# Altium schematic symbol library HW_ADHERENT_SYSCTRL_R1_L2.SCHLIB: 1987 symbols (part 5 of 38)
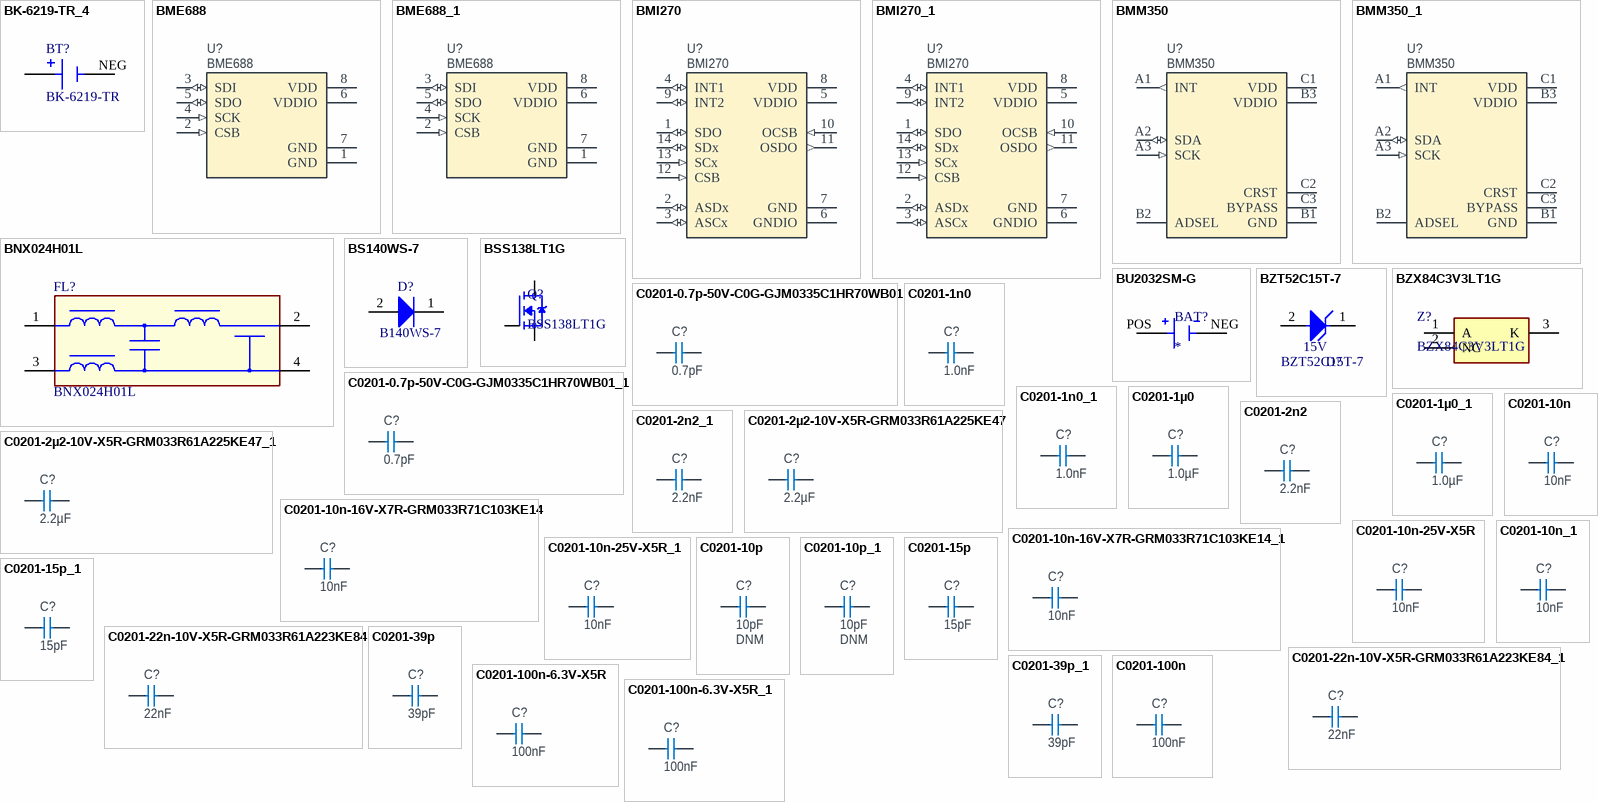
[diagram p66: symbols BK-6219-TR_4 to C0201-100n-6.3V-X5R_1]

## C0201-15p
designator C?, comment 15pF
Capacitor, NP0, ±5%, 25V; Part Number: C0201-15p; Manufacturer: Murata; Manufacturer Part Number: GRM0335C1E150JA01D; Part number IPS: 00000003193; Part number NEMS: 100200034; Pad Count: 2; Component Status: Active; Artikkelnr Noca: N.A.; Footprint Doc: 0201; Value: 15pF; Author: rsk; PartId: 100200034; Component Class: Capacitors; ComponentLink1URL: N.A.; ComponentLink1Description: Datasheet; ComponentLink2URL: N.A.; ComponentLink2Description: Supplier link; HelpURL: N.A.; LatestRevisionDate: 2023-01-06; Published: 2014-11-13; Note: 25V; Supplier 1: N.A.; Supplier Part Number 1: N.A.; Supplier 2: N.A.; Supplier Part Number 2: N.A.; Part number Norautron: N.A.
footprint CAPC0603X03L_C
pins: 1, 2

## C0201-15p_1
designator C?, comment 15pF
Capacitor, NP0, ±5%, 25V; Part Number: C0201-15p; Manufacturer: Murata; Manufacturer Part Number: GRM0335C1E150JA01D; Part number IPS: 00000003193; Part number NEMS: 100200034; Pad Count: 2; Component Status: Active; Artikkelnr Noca: N.A.; Footprint Doc: 0201; Value: 15pF; Author: rsk; PartId: 100200034; Component Class: Capacitors; ComponentLink1URL: N.A.; ComponentLink1Description: Datasheet; ComponentLink2URL: N.A.; ComponentLink2Description: Supplier link; HelpURL: N.A.; LatestRevisionDate: 2023-01-06; Published: 2014-11-13; Note: 25V; Supplier 1: N.A.; Supplier Part Number 1: N.A.; Supplier 2: N.A.; Supplier Part Number 2: N.A.; Part number Norautron: N.A.
footprint CAPC0603X03L_C
pins: 1, 2

## C0201-22n-10V-X5R-GRM033R61A223KE84
designator C?, comment 22nF
Capacitor, Ceramic, 22nF 10V X5R 0201,±10%; Part Number: C0201-22n-10V-X5R-GRM033R61A223KE84; Manufacturer: Murata; Manufacturer Part Number: GRM033R61A223KE84D; Part number NEMS: 100200495; Pad Count: 2; Artikkelnr Noca: N.A.; Component Status: Active; Component Class: Capacitors; Author: prbu; ComponentLink1URL: https://www.murata.com/en-sg/products/productdetail?partno=GRM033R61A223KE84%23; ComponentLink1Description: Datasheet; ComponentLink2URL: https://www.mouser.com/ProductDetail/Murata-Electronics/GRM033R61A223KE84E?qs=BZBei1rCqCCPqziwOnRusw%3D%3D; ComponentLink2Description: Supplier link; HelpURL: N.A.; Footprint Doc: 0201; LatestRevisionDate: 2021-12-09; Published: 2021-12-09; Value: 22nF; Note: 10V; Supplier 1: Mouser; Supplier Part Number 1: 81-GRM033R61A223KE4E; Supplier 2: Digi-Key; Supplier Part Number 2: 490-13334-1-ND; Part number IPS: N.A.; Part number Norautron: N.A.; PartId: 100200495
footprint CAPC0603X03L_C
pins: 1, 2

## C0201-22n-10V-X5R-GRM033R61A223KE84_1
designator C?, comment 22nF
Capacitor, Ceramic, 22nF 10V X5R 0201,±10%; Part Number: C0201-22n-10V-X5R-GRM033R61A223KE84; Manufacturer: Murata; Manufacturer Part Number: GRM033R61A223KE84D; Part number NEMS: 100200495; Pad Count: 2; Artikkelnr Noca: N.A.; Component Status: Active; Component Class: Capacitors; Author: prbu; ComponentLink1URL: https://www.murata.com/en-sg/products/productdetail?partno=GRM033R61A223KE84%23; ComponentLink1Description: Datasheet; ComponentLink2URL: https://www.mouser.com/ProductDetail/Murata-Electronics/GRM033R61A223KE84E?qs=BZBei1rCqCCPqziwOnRusw%3D%3D; ComponentLink2Description: Supplier link; HelpURL: N.A.; Footprint Doc: 0201; LatestRevisionDate: 2021-12-09; Published: 2021-12-09; Value: 22nF; Note: 10V; Supplier 1: Mouser; Supplier Part Number 1: 81-GRM033R61A223KE4E; Supplier 2: Digi-Key; Supplier Part Number 2: 490-13334-1-ND; Part number IPS: N.A.; Part number Norautron: N.A.; PartId: 100200495
footprint CAPC0603X03L_C
pins: 1, 2

## C0201-39p
designator C?, comment 39pF
Capacitor, NP0, ±1%, 25V; Part Number: C0201-39p; Manufacturer: Murata; Manufacturer Part Number: GRM0335C1E390FA01D; Part number IPS: 00000001668; Part number NEMS: 100200039; Artikkelnr Noca: N.A.; Pad Count: 2; Component Status: Active; ComponentLink1URL: N.A.; ComponentLink1Description: Datasheet; ComponentLink2URL: N.A.; ComponentLink2Description: Supplier link; HelpURL: N.A.; Footprint Doc: 0201; LatestRevisionDate: 2019-04-16; Published: 2019-04-16; Value: 39pF; Note: 25V; Supplier 1: N.A.; Supplier Part Number 1: N.A.; Supplier 2: N.A.; Supplier Part Number 2: N.A.; PartId: 100200039; Component Class: Capacitors; Author: rsk; Part number Norautron: N.A.
footprint CAPC0603X03L_C
pins: 1, 2

## C0201-39p_1
designator C?, comment 39pF
Capacitor, NP0, ±1%, 25V; Part Number: C0201-39p; Manufacturer: Murata; Manufacturer Part Number: GRM0335C1E390FA01D; Part number IPS: 00000001668; Part number NEMS: 100200039; Artikkelnr Noca: N.A.; Pad Count: 2; Component Status: Active; ComponentLink1URL: N.A.; ComponentLink1Description: Datasheet; ComponentLink2URL: N.A.; ComponentLink2Description: Supplier link; HelpURL: N.A.; Footprint Doc: 0201; LatestRevisionDate: 2019-04-16; Published: 2019-04-16; Value: 39pF; Note: 25V; Supplier 1: N.A.; Supplier Part Number 1: N.A.; Supplier 2: N.A.; Supplier Part Number 2: N.A.; PartId: 100200039; Component Class: Capacitors; Author: rsk; Part number Norautron: N.A.
footprint CAPC0603X03L_C
pins: 1, 2

## C0201-100n
designator C?, comment 100nF
Capacitor, X5R, ±10%; Part Number: C0201-100n; Manufacturer: N.A.; Part number IPS: 00000001248, 00000002505; Part number Norautron: 262071862; Part number NEMS: 100200078; Note: 16V; Pad Count: 2; Component Status: Active; Manufacturer Part Number: N.A.; ComponentLink1URL: N.A.; ComponentLink1Description: Datasheet; ComponentLink2URL: N.A.; ComponentLink2Description: Supplier link; HelpURL: N.A.; Footprint Doc: 0201; LatestRevisionDate: 2017-11-09; Published: 2014-11-13; Value: 100nF; Supplier 1: N.A.; Supplier Part Number 1: N.A.; Supplier 2: N.A.; Supplier Part Number 2: N.A.; Artikkelnr Noca: N.A.; PartId: 100200078; Component Class: Capacitors; Author: rsk
footprint CAPC0603X03L_C
pins: 1, 2

## C0201-100n-6.3V-X5R
designator C?, comment 100nF
Capacitor, Ceramic, X5R, ±10%, 6.3V; Part Number: C0201-100n-6.3V-X5R; Manufacturer: Murata; Manufacturer Part Number: GRM033R60J104KE19D; Part number NEMS: 100200451; Artikkelnr Noca: N.A.; Pad Count: 2; Component Status: Active; Footprint Doc: 0201; LatestRevisionDate: 2020-12-15; Published: 2020-12-15; Value: 100nF; Note: 6.3V; Part number IPS: N.A.; ComponentLink1URL: https://search.murata.co.jp/Ceramy/image/img/A01X/G101/ENG/GRM033R60J104KE19-01.pdf; ComponentLink1Description: Datasheet; ComponentLink2URL: https://www.murata.com/en-eu/products/productdetail?partno=GRM033R60J104KE19%23; ComponentLink2Description: Supplier link; HelpURL: N.A.; Supplier 1: Digi-Key; Supplier Part Number 1: 490-3167-1-ND; Supplier 2: N.A.; Supplier Part Number 2: N.A.; Component Class: Capacitors; PartId: 100200451; Author: rsk; Part number Norautron: N.A.
footprint CAPC0603X03L_C
pins: 1, 2

## C0201-100n-6.3V-X5R_1
designator C?, comment 100nF
Capacitor, Ceramic, X5R, ±10%, 6.3V; Part Number: C0201-100n-6.3V-X5R; Manufacturer: Murata; Manufacturer Part Number: GRM033R60J104KE19D; Part number NEMS: 100200451; Artikkelnr Noca: N.A.; Pad Count: 2; Component Status: Active; Footprint Doc: 0201; LatestRevisionDate: 2020-12-15; Published: 2020-12-15; Value: 100nF; Note: 6.3V; Part number IPS: N.A.; ComponentLink1URL: https://search.murata.co.jp/Ceramy/image/img/A01X/G101/ENG/GRM033R60J104KE19-01.pdf; ComponentLink1Description: Datasheet; ComponentLink2URL: https://www.murata.com/en-eu/products/productdetail?partno=GRM033R60J104KE19%23; ComponentLink2Description: Supplier link; HelpURL: N.A.; Supplier 1: Digi-Key; Supplier Part Number 1: 490-3167-1-ND; Supplier 2: N.A.; Supplier Part Number 2: N.A.; Component Class: Capacitors; PartId: 100200451; Author: rsk; Part number Norautron: N.A.
footprint CAPC0603X03L_C
pins: 1, 2

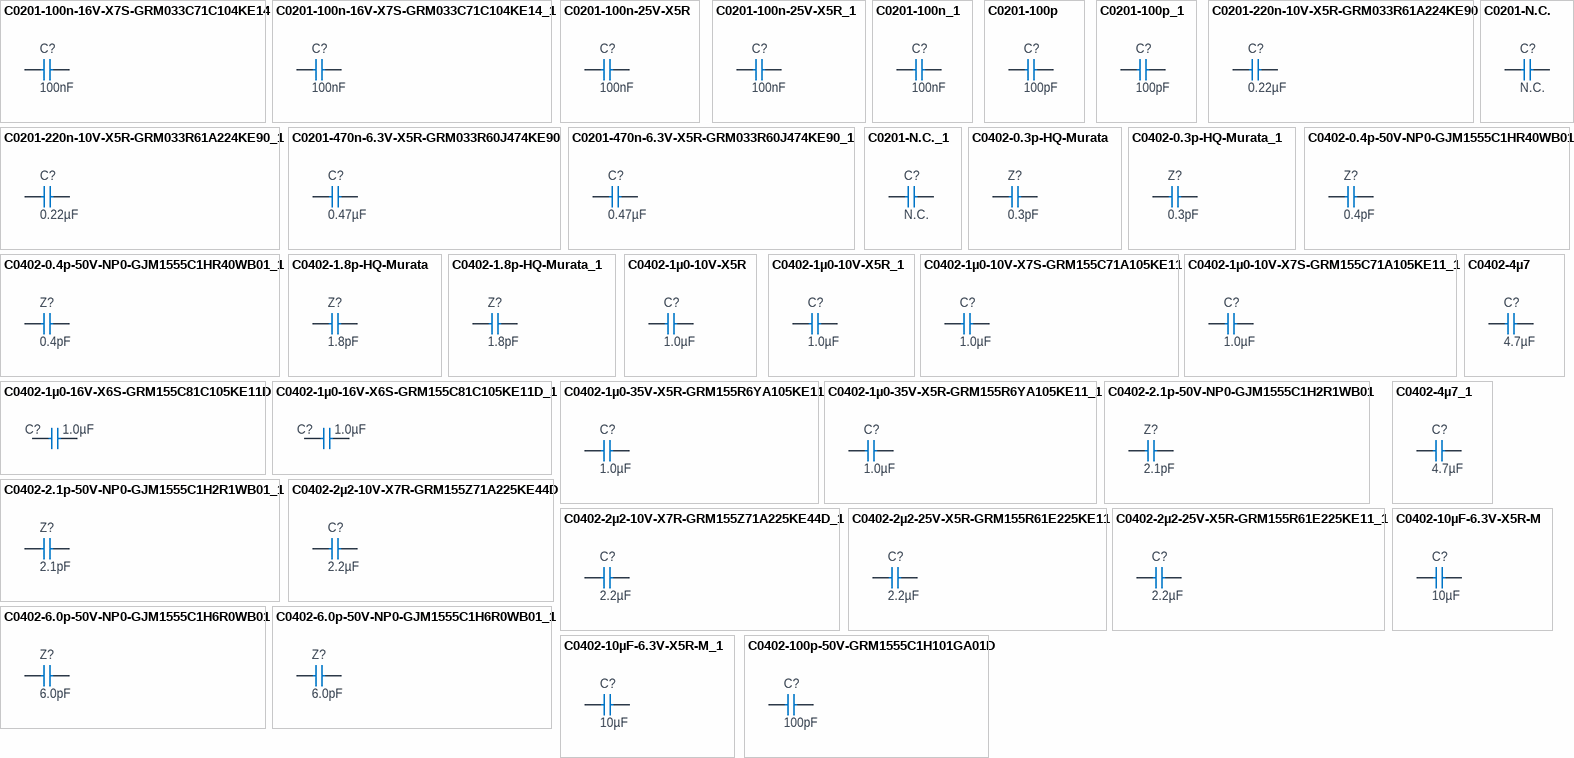
[diagram p8: symbols C0201-100n-16V-X7S-GRM033C71C104KE14 to C0402-100p-50V-GRM1555C1H101GA01D]

## C0201-100n-16V-X7S-GRM033C71C104KE14
designator C?, comment 100nF
Capacitor, Ceramic, 100nF 16V X7S 0201,±10%; Part Number: C0201-100n-16V-X7S-GRM033C71C104KE14; Manufacturer: Murata; Manufacturer Part Number: GRM033C71C104KE14D; Part number NEMS: 100200494; Pad Count: 2; Artikkelnr Noca: N.A.; Component Status: Active; PartId: 100200494; Component Class: Capacitors; Author: prbu; ComponentLink1URL: https://www.murata.com/en-sg/products/productdetail?partno=GRM033C71C104KE14%23; ComponentLink1Description: Datasheet; ComponentLink2URL: https://www.mouser.com/ProductDetail/Murata-Electronics/GRM033C71C104KE14D?qs=P%2FC4Eoq9CDzkjc0H6wJP9A%3D%3D; ComponentLink2Description: Supplier link; HelpURL: N.A.; Footprint Doc: 0201; LatestRevisionDate: 2021-12-09; Published: 2021-12-09; Value: 100nF; Note: 16V; Supplier 1: Mouser; Supplier Part Number 1: 81-GRM33C71C104KE14D; Supplier 2: Digi-Key; Supplier Part Number 2: 490-10387-1-ND; Part number IPS: N.A.; Part number Norautron: N.A.
footprint CAPC0603X03L_C
pins: 1, 2

## C0201-100n-16V-X7S-GRM033C71C104KE14_1
designator C?, comment 100nF
Capacitor, Ceramic, 100nF 16V X7S 0201,±10%; Part Number: C0201-100n-16V-X7S-GRM033C71C104KE14; Manufacturer: Murata; Manufacturer Part Number: GRM033C71C104KE14D; Part number NEMS: 100200494; Pad Count: 2; Artikkelnr Noca: N.A.; Component Status: Active; PartId: 100200494; Component Class: Capacitors; Author: prbu; ComponentLink1URL: https://www.murata.com/en-sg/products/productdetail?partno=GRM033C71C104KE14%23; ComponentLink1Description: Datasheet; ComponentLink2URL: https://www.mouser.com/ProductDetail/Murata-Electronics/GRM033C71C104KE14D?qs=P%2FC4Eoq9CDzkjc0H6wJP9A%3D%3D; ComponentLink2Description: Supplier link; HelpURL: N.A.; Footprint Doc: 0201; LatestRevisionDate: 2021-12-09; Published: 2021-12-09; Value: 100nF; Note: 16V; Supplier 1: Mouser; Supplier Part Number 1: 81-GRM33C71C104KE14D; Supplier 2: Digi-Key; Supplier Part Number 2: 490-10387-1-ND; Part number IPS: N.A.; Part number Norautron: N.A.
footprint CAPC0603X03L_C
pins: 1, 2

## C0201-100n-25V-X5R
designator C?, comment 100nF
Capacitor, Ceramic, X5R, ±10%, 25V; Part Number: C0201-100n-25V-X5R; Manufacturer: Murata; Manufacturer Part Number: GRM033R61E104KE14J; Part number NEMS: 100200459; Artikkelnr Noca: N.A.; Pad Count: 2; Component Status: Active; LatestRevisionDate: 2020-12-16; Published: 2020-12-16; Value: 100nF; Note: 25V; Footprint Doc: 0201; Part number IPS: N.A.; ComponentLink1URL: https://search.murata.co.jp/Ceramy/image/img/A01X/G101/ENG/GRM033R61E104KE14-01.pdf; ComponentLink1Description: Datasheet; ComponentLink2URL: https://www.murata.com/en-global/products/productdetail?partno=GRM033R61E104KE14%23; ComponentLink2Description: Supplier link; HelpURL: N.A.; Supplier 1: Digi-Key; Supplier Part Number 1: 490-14571-1-ND; Supplier 2: Mouser; Supplier Part Number 2: 81-GRM033R61E104KE4J; Component Class: Capacitors; PartId: 100200459; Author: rsk; Part number Norautron: N.A.
footprint CAPC0603X03L_C
pins: 1, 2

## C0201-100n-25V-X5R_1
designator C?, comment 100nF
Capacitor, Ceramic, X5R, ±10%, 25V; Part Number: C0201-100n-25V-X5R; Manufacturer: Murata; Manufacturer Part Number: GRM033R61E104KE14J; Part number NEMS: 100200459; Artikkelnr Noca: N.A.; Pad Count: 2; Component Status: Active; LatestRevisionDate: 2020-12-16; Published: 2020-12-16; Value: 100nF; Note: 25V; Footprint Doc: 0201; Part number IPS: N.A.; ComponentLink1URL: https://search.murata.co.jp/Ceramy/image/img/A01X/G101/ENG/GRM033R61E104KE14-01.pdf; ComponentLink1Description: Datasheet; ComponentLink2URL: https://www.murata.com/en-global/products/productdetail?partno=GRM033R61E104KE14%23; ComponentLink2Description: Supplier link; HelpURL: N.A.; Supplier 1: Digi-Key; Supplier Part Number 1: 490-14571-1-ND; Supplier 2: Mouser; Supplier Part Number 2: 81-GRM033R61E104KE4J; Component Class: Capacitors; PartId: 100200459; Author: rsk; Part number Norautron: N.A.
footprint CAPC0603X03L_C
pins: 1, 2

## C0201-100n_1
designator C?, comment 100nF
Capacitor, X5R, ±10%; Part Number: C0201-100n; Manufacturer: N.A.; Part number IPS: 00000001248, 00000002505; Part number Norautron: 262071862; Part number NEMS: 100200078; Note: 16V; Pad Count: 2; Component Status: Active; Manufacturer Part Number: N.A.; ComponentLink1URL: N.A.; ComponentLink1Description: Datasheet; ComponentLink2URL: N.A.; ComponentLink2Description: Supplier link; HelpURL: N.A.; Footprint Doc: 0201; LatestRevisionDate: 2017-11-09; Published: 2014-11-13; Value: 100nF; Supplier 1: N.A.; Supplier Part Number 1: N.A.; Supplier 2: N.A.; Supplier Part Number 2: N.A.; Artikkelnr Noca: N.A.; PartId: 100200078; Component Class: Capacitors; Author: rsk
footprint CAPC0603X03L_C
pins: 1, 2

## C0201-100p
designator C?, comment 100pF
Capacitor, NP0, ±2%, 25V; Part Number: C0201-100p; Manufacturer: Murata; Manufacturer Part Number: GRM0335C1E101GA01D; Part number IPS: 00000007853; Part number NEMS: 100200044; Artikkelnr Noca: N.A.; Pad Count: 2; Component Status: Active; ComponentLink1URL: N.A.; ComponentLink1Description: Datasheet; ComponentLink2URL: N.A.; ComponentLink2Description: Supplier link; HelpURL: N.A.; Footprint Doc: 0201; LatestRevisionDate: 2019-04-16; Published: 2019-04-16; Value: 100pF; Note: 25V; Supplier 1: N.A.; Supplier Part Number 1: N.A.; Supplier 2: N.A.; Supplier Part Number 2: N.A.; PartId: 100200044; Component Class: Capacitors; Author: rsk; Part number Norautron: N.A.
footprint CAPC0603X03L_C
pins: 1, 2

## C0201-100p_1
designator C?, comment 100pF
Capacitor, NP0, ±2%, 25V; Part Number: C0201-100p; Manufacturer: Murata; Manufacturer Part Number: GRM0335C1E101GA01D; Part number IPS: 00000007853; Part number NEMS: 100200044; Artikkelnr Noca: N.A.; Pad Count: 2; Component Status: Active; ComponentLink1URL: N.A.; ComponentLink1Description: Datasheet; ComponentLink2URL: N.A.; ComponentLink2Description: Supplier link; HelpURL: N.A.; Footprint Doc: 0201; LatestRevisionDate: 2019-04-16; Published: 2019-04-16; Value: 100pF; Note: 25V; Supplier 1: N.A.; Supplier Part Number 1: N.A.; Supplier 2: N.A.; Supplier Part Number 2: N.A.; PartId: 100200044; Component Class: Capacitors; Author: rsk; Part number Norautron: N.A.
footprint CAPC0603X03L_C
pins: 1, 2

## C0201-220n-10V-X5R-GRM033R61A224KE90
designator C?, comment 0.22µF
Capacitor, Ceramic, 0.22µF 10V X5R 0201, ±10%; Part Number: C0201-220n-10V-X5R-GRM033R61A224KE90; Manufacturer: Murata; Manufacturer Part Number: GRM033R61A224KE90D; Part number NEMS: 100200487; Pad Count: 2; Artikkelnr Noca: N.A.; Component Status: Active; Component Class: Capacitors; Author: prbu; ComponentLink1URL: https://www.murata.com/en-sg/products/productdetail?partno=GRM033R61A224KE90%23; ComponentLink1Description: Datasheet; ComponentLink2URL: https://www.mouser.com/ProductDetail/Murata-Electronics/GRM033R61A224KE90D?qs=sGAEpiMZZMtXHE36kCvv3zgoTDayw1zTTbet6g8ub%252Bg%3D; ComponentLink2Description: Supplier link; HelpURL: N.A.; Footprint Doc: 0201; LatestRevisionDate: 2021-12-09; Published: 2021-12-09; Value: 0.22µF; Note: 10V; Supplier 1: Mouser; Supplier Part Number 1: 81-GRM33R61A224KE90D; Supplier 2: Mouser; Supplier Part Number 2: 81-GRM033R61A224KE0J; Part number IPS: N.A.; Part number Norautron: N.A.; PartId: 100200487
footprint CAPC0603X03L_C
pins: 1, 2

## C0201-220n-10V-X5R-GRM033R61A224KE90_1
designator C?, comment 0.22µF
Capacitor, Ceramic, 0.22µF 10V X5R 0201, ±10%; Part Number: C0201-220n-10V-X5R-GRM033R61A224KE90; Manufacturer: Murata; Manufacturer Part Number: GRM033R61A224KE90D; Part number NEMS: 100200487; Pad Count: 2; Artikkelnr Noca: N.A.; Component Status: Active; Component Class: Capacitors; Author: prbu; ComponentLink1URL: https://www.murata.com/en-sg/products/productdetail?partno=GRM033R61A224KE90%23; ComponentLink1Description: Datasheet; ComponentLink2URL: https://www.mouser.com/ProductDetail/Murata-Electronics/GRM033R61A224KE90D?qs=sGAEpiMZZMtXHE36kCvv3zgoTDayw1zTTbet6g8ub%252Bg%3D; ComponentLink2Description: Supplier link; HelpURL: N.A.; Footprint Doc: 0201; LatestRevisionDate: 2021-12-09; Published: 2021-12-09; Value: 0.22µF; Note: 10V; Supplier 1: Mouser; Supplier Part Number 1: 81-GRM33R61A224KE90D; Supplier 2: Mouser; Supplier Part Number 2: 81-GRM033R61A224KE0J; Part number IPS: N.A.; Part number Norautron: N.A.; PartId: 100200487
footprint CAPC0603X03L_C
pins: 1, 2

## C0201-470n-6.3V-X5R-GRM033R60J474KE90
designator C?, comment 0.47µF
Capacitor, Ceramic, 0.47µF 6.3V X5R 0201,±10%; Part Number: C0201-470n-6.3V-X5R-GRM033R60J474KE90; Manufacturer: Murata; Manufacturer Part Number: GRM033R60J474KE90D; Part number NEMS: 100200488; Pad Count: 2; Artikkelnr Noca: N.A.; Component Status: Active; Component Class: Capacitors; Author: prbu; ComponentLink1URL: https://www.murata.com/en-sg/products/productdetail?partno=GRM033R60J474KE90%23; ComponentLink1Description: Datasheet; ComponentLink2URL: https://www.mouser.com/ProductDetail/Murata-Electronics/GRM033R60J474KE90D?qs=sGAEpiMZZMsKMBVpGK0sItoTn08PM719efpAd7qZWQ4%3D; ComponentLink2Description: Supplier link; HelpURL: N.A.; Footprint Doc: 0201; LatestRevisionDate: 2021-12-09; Published: 2021-12-09; Value: 0.47µF; Note: 6.3V; Supplier 1: Digi-Key; Supplier Part Number 1: 490-10409-1-ND; Supplier 2: Mouser; Supplier Part Number 2: 81-GRM33R60J474KE90D; Part number IPS: N.A.; Part number Norautron: N.A.; PartId: 100200488
footprint CAPC0603X03L_C
pins: 1, 2

## C0201-470n-6.3V-X5R-GRM033R60J474KE90_1
designator C?, comment 0.47µF
Capacitor, Ceramic, 0.47µF 6.3V X5R 0201,±10%; Part Number: C0201-470n-6.3V-X5R-GRM033R60J474KE90; Manufacturer: Murata; Manufacturer Part Number: GRM033R60J474KE90D; Part number NEMS: 100200488; Pad Count: 2; Artikkelnr Noca: N.A.; Component Status: Active; Component Class: Capacitors; Author: prbu; ComponentLink1URL: https://www.murata.com/en-sg/products/productdetail?partno=GRM033R60J474KE90%23; ComponentLink1Description: Datasheet; ComponentLink2URL: https://www.mouser.com/ProductDetail/Murata-Electronics/GRM033R60J474KE90D?qs=sGAEpiMZZMsKMBVpGK0sItoTn08PM719efpAd7qZWQ4%3D; ComponentLink2Description: Supplier link; HelpURL: N.A.; Footprint Doc: 0201; LatestRevisionDate: 2021-12-09; Published: 2021-12-09; Value: 0.47µF; Note: 6.3V; Supplier 1: Digi-Key; Supplier Part Number 1: 490-10409-1-ND; Supplier 2: Mouser; Supplier Part Number 2: 81-GRM33R60J474KE90D; Part number IPS: N.A.; Part number Norautron: N.A.; PartId: 100200488
footprint CAPC0603X03L_C
pins: 1, 2

## C0201-N.C.
designator C?, comment N.C.
Not mounted; Part Number: C0201-N.C.; Part number NEMS: 100200001; Assembly: Not mounted; Pad Count: 2; Artikkelnr Noca: N.A.; Note: Chip Cap; Component Status: Active; Value: N.C.; Footprint Doc: 0201; Component Class: Capacitors; Author: rsk; ComponentLink1Description: Datasheet; ComponentLink1URL: N.A.; ComponentLink2Description: Supplier link; ComponentLink2URL: N.A.; HelpURL: N.A.; LatestRevisionDate: 2014-11-13; Manufacturer: N.A.; Manufacturer Part Number: N.A.; PartId: 100200001; Part number IPS: N.A.; Part number Norautron: N.A.; Published: 2014-11-13; Supplier 1: N.A.; Supplier 2: N.A.; Supplier Part Number 1: N.A.; Supplier Part Number 2: N.A.
footprint CAPC0603X03L_C_NC
pins: 1, 2

## C0201-N.C._1
designator C?, comment N.C.
Not mounted; Part Number: C0201-N.C.; Part number NEMS: 100200001; Assembly: Not mounted; Pad Count: 2; Artikkelnr Noca: N.A.; Note: Chip Cap; Component Status: Active; Value: N.C.; Footprint Doc: 0201; Component Class: Capacitors; Author: rsk; ComponentLink1Description: Datasheet; ComponentLink1URL: N.A.; ComponentLink2Description: Supplier link; ComponentLink2URL: N.A.; HelpURL: N.A.; LatestRevisionDate: 2014-11-13; Manufacturer: N.A.; Manufacturer Part Number: N.A.; PartId: 100200001; Part number IPS: N.A.; Part number Norautron: N.A.; Published: 2014-11-13; Supplier 1: N.A.; Supplier 2: N.A.; Supplier Part Number 1: N.A.; Supplier Part Number 2: N.A.
footprint CAPC0603X03L_C_NC
pins: 1, 2

## C0402-0.3p-HQ-Murata
designator Z?, comment 0.3pF
Capacitor, NP0, ±0.05pF, 50V; Part Number: C0402-0.3p-HQ-Murata; Manufacturer: Murata; Manufacturer Part Number: GJM1555C1HR30WB01D; Part number IPS: 00000001777; Part number NEMS: 100200433; Pad Count: 2; Artikkelnr Noca: N.A.; Component Status: Active; Component Class: Capacitors; Author: rsk; ComponentLink1URL: https://search.murata.co.jp/Ceramy/image/img/A01X/G101/ENG/GJM1555C1HR30WB01-01.pdf; ComponentLink1Description: Datasheet; ComponentLink2URL: N.A.; ComponentLink2Description: Supplier link; HelpURL: https://psearch.en.murata.com/capacitor/product/GJM1555C1HR30WB01%23.html; Footprint Doc: 0402; LatestRevisionDate: 2020-02-07; Published: 2019-01-11; Value: 0.3pF; Note: 50V; Supplier 1: Digi-Key; Supplier Part Number 1: 490-11248-1-ND; Supplier 2: Mouser; Supplier Part Number 2: 81-GJM1555C1HR30WB1D; Part number Norautron: N.A.; PartId: 100200433
footprint CAPC1005X04L
footprint C1608X06L-C1005X04M (Chip Capacitor, 2-Leads, Body 1.6x0.8mm, IPC High Density)
pins: 1, 2

## C0402-0.3p-HQ-Murata_1
designator Z?, comment 0.3pF
Capacitor, NP0, ±0.05pF, 50V; Part Number: C0402-0.3p-HQ-Murata; Manufacturer: Murata; Manufacturer Part Number: GJM1555C1HR30WB01D; Part number IPS: 00000001777; Part number NEMS: 100200433; Pad Count: 2; Artikkelnr Noca: N.A.; Component Status: Active; Component Class: Capacitors; Author: rsk; ComponentLink1URL: https://search.murata.co.jp/Ceramy/image/img/A01X/G101/ENG/GJM1555C1HR30WB01-01.pdf; ComponentLink1Description: Datasheet; ComponentLink2URL: N.A.; ComponentLink2Description: Supplier link; HelpURL: https://psearch.en.murata.com/capacitor/product/GJM1555C1HR30WB01%23.html; Footprint Doc: 0402; LatestRevisionDate: 2020-02-07; Published: 2019-01-11; Value: 0.3pF; Note: 50V; Supplier 1: Digi-Key; Supplier Part Number 1: 490-11248-1-ND; Supplier 2: Mouser; Supplier Part Number 2: 81-GJM1555C1HR30WB1D; Part number Norautron: N.A.; PartId: 100200433
footprint CAPC1005X04L
footprint C1608X06L-C1005X04M (Chip Capacitor, 2-Leads, Body 1.6x0.8mm, IPC High Density)
pins: 1, 2

## C0402-0.4p-50V-NP0-GJM1555C1HR40WB01
designator Z?, comment 0.4pF
Capacitor, NP0, ±0.05pF, 50V; Part Number: C0402-0.4p-50V-NP0-GJM1555C1HR40WB01; Manufacturer: Murata; Manufacturer Part Number: GJM1555C1HR40WB01D; Part number NEMS: 100200500; Pad Count: 2; Artikkelnr Noca: N.A.; Component Status: Active; Component Class: Capacitors; Author: rubr; ComponentLink1URL: https://search.murata.co.jp/Ceramy/image/img/A01X/G101/ENG/GJM1555C1HR40WB01-01A.pdf; ComponentLink1Description: Datasheet; ComponentLink2URL: N.A.; ComponentLink2Description: Supplier link; HelpURL: https://psearch.en.murata.com/inductor/product/GJM1555C1HR40WB01%23.html; Footprint Doc: 0402; LatestRevisionDate: 2022-02-17; Published: 2022-02-17; Value: 0.4pF; Note: 50V; Supplier 1: Digi-Key; Supplier Part Number 1: 490-11249-1-ND; Supplier 2: Mouser; Supplier Part Number 2: 81-GJM1555C1HR40WB1D; Part number IPS: N.A.; Part number Norautron: N.A.; PartId: 100200500
footprint CAPC1005X04L
footprint C1608X06L-C1005X04M (Chip Capacitor, 2-Leads, Body 1.6x0.8mm, IPC High Density)
pins: 1, 2

## C0402-0.4p-50V-NP0-GJM1555C1HR40WB01_1
designator Z?, comment 0.4pF
Capacitor, NP0, ±0.05pF, 50V; Part Number: C0402-0.4p-50V-NP0-GJM1555C1HR40WB01; Manufacturer: Murata; Manufacturer Part Number: GJM1555C1HR40WB01D; Part number NEMS: 100200500; Pad Count: 2; Artikkelnr Noca: N.A.; Component Status: Active; Component Class: Capacitors; Author: rubr; ComponentLink1URL: https://search.murata.co.jp/Ceramy/image/img/A01X/G101/ENG/GJM1555C1HR40WB01-01A.pdf; ComponentLink1Description: Datasheet; ComponentLink2URL: N.A.; ComponentLink2Description: Supplier link; HelpURL: https://psearch.en.murata.com/inductor/product/GJM1555C1HR40WB01%23.html; Footprint Doc: 0402; LatestRevisionDate: 2022-02-17; Published: 2022-02-17; Value: 0.4pF; Note: 50V; Supplier 1: Digi-Key; Supplier Part Number 1: 490-11249-1-ND; Supplier 2: Mouser; Supplier Part Number 2: 81-GJM1555C1HR40WB1D; Part number IPS: N.A.; Part number Norautron: N.A.; PartId: 100200500
footprint CAPC1005X04L
footprint C1608X06L-C1005X04M (Chip Capacitor, 2-Leads, Body 1.6x0.8mm, IPC High Density)
pins: 1, 2

## C0402-1.8p-HQ-Murata
designator Z?, comment 1.8pF
Capacitor, C0G, ±0.05pF, 50V; Part Number: C0402-1.8p-HQ-Murata; Manufacturer: Murata; Manufacturer Part Number: GJM1555C1H1R8WB01D; Part number NEMS: 100200521; Pad Count: 2; Artikkelnr Noca: N.A.; Component Status: Active; Component Class: Capacitors; Author: masi; ComponentLink1URL: https://www.murata.com/en-global/products/productdetail?partno=GJM1555C1H1R8WB01%23; ComponentLink1Description: Datasheet; ComponentLink2URL: N.A.; ComponentLink2Description: Supplier link; HelpURL: https://search.murata.co.jp/Ceramy/image/img/A01X/G101/ENG/GJM1555C1H1R8WB01-01A.pdf; Footprint Doc: 0402; LatestRevisionDate: 2022-08-18; Published: 2022-08-18; Value: 1.8pF; Note: 50V; Supplier 1: Digi-Key; Supplier Part Number 1: 490-11202-1-ND; Supplier 2: Mouser; Supplier Part Number 2: 81-GJM1555C1H1R8WB1D; Part number IPS: N.A.; Part number Norautron: N.A.; PartId: 100200521
footprint CAPC1005X04L
footprint C1608X06L-C1005X04M (Chip Capacitor, 2-Leads, Body 1.6x0.8mm, IPC High Density)
pins: 1, 2

## C0402-1.8p-HQ-Murata_1
designator Z?, comment 1.8pF
Capacitor, C0G, ±0.05pF, 50V; Part Number: C0402-1.8p-HQ-Murata; Manufacturer: Murata; Manufacturer Part Number: GJM1555C1H1R8WB01D; Part number NEMS: 100200521; Pad Count: 2; Artikkelnr Noca: N.A.; Component Status: Active; Component Class: Capacitors; Author: masi; ComponentLink1URL: https://www.murata.com/en-global/products/productdetail?partno=GJM1555C1H1R8WB01%23; ComponentLink1Description: Datasheet; ComponentLink2URL: N.A.; ComponentLink2Description: Supplier link; HelpURL: https://search.murata.co.jp/Ceramy/image/img/A01X/G101/ENG/GJM1555C1H1R8WB01-01A.pdf; Footprint Doc: 0402; LatestRevisionDate: 2022-08-18; Published: 2022-08-18; Value: 1.8pF; Note: 50V; Supplier 1: Digi-Key; Supplier Part Number 1: 490-11202-1-ND; Supplier 2: Mouser; Supplier Part Number 2: 81-GJM1555C1H1R8WB1D; Part number IPS: N.A.; Part number Norautron: N.A.; PartId: 100200521
footprint CAPC1005X04L
footprint C1608X06L-C1005X04M (Chip Capacitor, 2-Leads, Body 1.6x0.8mm, IPC High Density)
pins: 1, 2

## C0402-1µ0-10V-X5R
designator C?, comment 1.0µF
Capacitor, Ceramic, X5R, ±10%, 10V; Part Number: C0402-1µ0-10V-X5R; Manufacturer: N.A.; Part number NEMS: 100200482; Pad Count: 2; Component Status: Active; Value: 1.0µF; Footprint Doc: 0402; Component Class: Capacitors; Author: rubr; PartId: 100200482; Manufacturer Part Number: N.A.; ComponentLink1URL: N.A.; ComponentLink1Description: Datasheet; ComponentLink2URL: N.A.; ComponentLink2Description: Supplier link; HelpURL: N.A.; LatestRevisionDate: 2021-07-22; Published: 2021-07-22; Note: 10V; Supplier 1: N.A.; Supplier Part Number 1: N.A.; Supplier 2: N.A.; Supplier Part Number 2: N.A.; Artikkelnr Noca: N.A.; Part number IPS: N.A.; Part number Norautron: N.A.
footprint CAPC1005X04L
pins: 1, 2

## C0402-1µ0-10V-X5R_1
designator C?, comment 1.0µF
Capacitor, Ceramic, X5R, ±10%, 10V; Part Number: C0402-1µ0-10V-X5R; Manufacturer: N.A.; Part number NEMS: 100200482; Pad Count: 2; Component Status: Active; Value: 1.0µF; Footprint Doc: 0402; Component Class: Capacitors; Author: rubr; PartId: 100200482; Manufacturer Part Number: N.A.; ComponentLink1URL: N.A.; ComponentLink1Description: Datasheet; ComponentLink2URL: N.A.; ComponentLink2Description: Supplier link; HelpURL: N.A.; LatestRevisionDate: 2021-07-22; Published: 2021-07-22; Note: 10V; Supplier 1: N.A.; Supplier Part Number 1: N.A.; Supplier 2: N.A.; Supplier Part Number 2: N.A.; Artikkelnr Noca: N.A.; Part number IPS: N.A.; Part number Norautron: N.A.
footprint CAPC1005X04L
pins: 1, 2

## C0402-1µ0-10V-X7S-GRM155C71A105KE11
designator C?, comment 1.0µF
Capacitor, Ceramic, 1.0µF 10V X7S 0402,±10%; Part Number: C0402-1µ0-10V-X7S-GRM155C71A105KE11; Manufacturer: Murata; Manufacturer Part Number: GRM155C71A105KE11D; Part number NEMS: 100200497; Pad Count: 2; Artikkelnr Noca: N.A.; Component Status: Active; Component Class: Capacitors; Author: prbu; ComponentLink1URL: https://www.murata.com/en-sg/products/productdetail?partno=GRM155C71A105KE11%23; ComponentLink1Description: Datasheet; ComponentLink2URL: https://www.digikey.com/en/products/detail/murata-electronics/GRM155C71A105KE11D/6606086; ComponentLink2Description: Supplier link; HelpURL: N.A.; Footprint Doc: 0402; LatestRevisionDate: 2021-12-09; Published: 2021-12-09; Value: 1.0µF; Note: 10V; Supplier 1: Mouser; Supplier Part Number 1: 81-GRM155C71A105KE1J; Supplier 2: Digi-Key; Supplier Part Number 2: 490-14457-1-ND; Part number IPS: N.A.; Part number Norautron: N.A.; PartId: 100200497
footprint CAPC1005X04L
pins: 1, 2

## C0402-1µ0-10V-X7S-GRM155C71A105KE11_1
designator C?, comment 1.0µF
Capacitor, Ceramic, 1.0µF 10V X7S 0402,±10%; Part Number: C0402-1µ0-10V-X7S-GRM155C71A105KE11; Manufacturer: Murata; Manufacturer Part Number: GRM155C71A105KE11D; Part number NEMS: 100200497; Pad Count: 2; Artikkelnr Noca: N.A.; Component Status: Active; Component Class: Capacitors; Author: prbu; ComponentLink1URL: https://www.murata.com/en-sg/products/productdetail?partno=GRM155C71A105KE11%23; ComponentLink1Description: Datasheet; ComponentLink2URL: https://www.digikey.com/en/products/detail/murata-electronics/GRM155C71A105KE11D/6606086; ComponentLink2Description: Supplier link; HelpURL: N.A.; Footprint Doc: 0402; LatestRevisionDate: 2021-12-09; Published: 2021-12-09; Value: 1.0µF; Note: 10V; Supplier 1: Mouser; Supplier Part Number 1: 81-GRM155C71A105KE1J; Supplier 2: Digi-Key; Supplier Part Number 2: 490-14457-1-ND; Part number IPS: N.A.; Part number Norautron: N.A.; PartId: 100200497
footprint CAPC1005X04L
pins: 1, 2

## C0402-1µ0-16V-X6S-GRM155C81C105KE11D
designator C?, comment 1.0µF
Capacitor, Ceramic, 1.0µF 16V X6S 0402,±10%; Part Number: C0402-1µ0-16V-X6S-GRM155C81C105KE11D; Manufacturer: Murata; Manufacturer Part Number: GRM155C81C105KE11D; Part number NEMS: 100200516; Pad Count: 2; Artikkelnr Noca: N.A.; Component Status: Active; Component Class: Capacitors; Author: prbu; ComponentLink1URL: https://www.murata.com/en-sg/products/productdetail?partno=GRM155C81C105KE11%23; ComponentLink1Description: Datasheet; ComponentLink2URL: https://www.digikey.com/en/products/detail/murata-electronics/GRM155C81C105KE11D/4905091; ComponentLink2Description: Supplier link; HelpURL: N.A.; Footprint Doc: 0402; LatestRevisionDate: 2023-01-03; Published: 2022-07-01; Value: 1.0µF; Note: 16V; Supplier 1: Digi-Key; Supplier Part Number 1: 490-12700-2-ND; Supplier 2: Mouser; Supplier Part Number 2: 81-GRM155C81C105KE1D; Part number IPS: N.A.; Part number Norautron: N.A.; PartId: 100200516
footprint CAPC1005X04L
pins: 1, 2

## C0402-1µ0-16V-X6S-GRM155C81C105KE11D_1
designator C?, comment 1.0µF
Capacitor, Ceramic, 1.0µF 16V X6S 0402,±10%; Part Number: C0402-1µ0-16V-X6S-GRM155C81C105KE11D; Manufacturer: Murata; Manufacturer Part Number: GRM155C81C105KE11D; Part number NEMS: 100200516; Pad Count: 2; Artikkelnr Noca: N.A.; Component Status: Active; Component Class: Capacitors; Author: prbu; ComponentLink1URL: https://www.murata.com/en-sg/products/productdetail?partno=GRM155C81C105KE11%23; ComponentLink1Description: Datasheet; ComponentLink2URL: https://www.digikey.com/en/products/detail/murata-electronics/GRM155C81C105KE11D/4905091; ComponentLink2Description: Supplier link; HelpURL: N.A.; Footprint Doc: 0402; LatestRevisionDate: 2023-01-03; Published: 2022-07-01; Value: 1.0µF; Note: 16V; Supplier 1: Digi-Key; Supplier Part Number 1: 490-12700-2-ND; Supplier 2: Mouser; Supplier Part Number 2: 81-GRM155C81C105KE1D; Part number IPS: N.A.; Part number Norautron: N.A.; PartId: 100200516
footprint CAPC1005X04L
pins: 1, 2

## C0402-1µ0-35V-X5R-GRM155R6YA105KE11
designator C?, comment 1.0µF
Capacitor, Ceramic, 1.0µF 35V X5R 0402,±10%; Part Number: C0402-1µ0-35V-X5R-GRM155R6YA105KE11; Manufacturer: Murata; Manufacturer Part Number: GRM155R6YA105KE11D; Part number NEMS: 100200489; Pad Count: 2; Artikkelnr Noca: N.A.; Component Status: Active; Component Class: Capacitors; Author: prbu; ComponentLink1URL: https://www.murata.com/en-sg/products/productdetail?partno=GRM155R6YA105KE11%23; ComponentLink1Description: Datasheet; ComponentLink2URL: https://www.digikey.com/en/products/detail/murata-electronics/GRM155R6YA105KE11D/4905162; ComponentLink2Description: Supplier link; HelpURL: N.A.; Footprint Doc: 0402; LatestRevisionDate: 2021-12-09; Published: 2021-12-09; Value: 1.0µF; Note: 35V; Supplier 1: Mouser; Supplier Part Number 1: 81-GRM155R6YA105KE1D; Supplier 2: Digi-Key; Supplier Part Number 2: 490-10019-1-ND; Part number IPS: N.A.; Part number Norautron: N.A.; PartId: 100200489
footprint CAPC1005X04L
pins: 1, 2

## C0402-1µ0-35V-X5R-GRM155R6YA105KE11_1
designator C?, comment 1.0µF
Capacitor, Ceramic, 1.0µF 35V X5R 0402,±10%; Part Number: C0402-1µ0-35V-X5R-GRM155R6YA105KE11; Manufacturer: Murata; Manufacturer Part Number: GRM155R6YA105KE11D; Part number NEMS: 100200489; Pad Count: 2; Artikkelnr Noca: N.A.; Component Status: Active; Component Class: Capacitors; Author: prbu; ComponentLink1URL: https://www.murata.com/en-sg/products/productdetail?partno=GRM155R6YA105KE11%23; ComponentLink1Description: Datasheet; ComponentLink2URL: https://www.digikey.com/en/products/detail/murata-electronics/GRM155R6YA105KE11D/4905162; ComponentLink2Description: Supplier link; HelpURL: N.A.; Footprint Doc: 0402; LatestRevisionDate: 2021-12-09; Published: 2021-12-09; Value: 1.0µF; Note: 35V; Supplier 1: Mouser; Supplier Part Number 1: 81-GRM155R6YA105KE1D; Supplier 2: Digi-Key; Supplier Part Number 2: 490-10019-1-ND; Part number IPS: N.A.; Part number Norautron: N.A.; PartId: 100200489
footprint CAPC1005X04L
pins: 1, 2

## C0402-2.1p-50V-NP0-GJM1555C1H2R1WB01
designator Z?, comment 2.1pF
Capacitor, NP0, ±0.05pF, 50V; Part Number: C0402-2.1p-50V-NP0-GJM1555C1H2R1WB01; Manufacturer: Murata; Manufacturer Part Number: GJM1555C1H2R1WB01D; Part number NEMS: 100200533; Pad Count: 2; Note: N.A.; Component Status: Active; Component Class: Capacitors; Author: rubr; ComponentLink1URL: https://search.murata.co.jp/Ceramy/image/img/A01X/G101/ENG/GJM1555C1H2R1WB01-01.pdf; ComponentLink1Description: Datasheet; ComponentLink2URL: https://www.digikey.com/en/products/detail/murata-electronics/GJM1555C1H2R1WB01D/2592918; ComponentLink2Description: Supplier link; HelpURL: https://www.murata.com/en-us/products/productdetail?partno=GJM1555C1H2R1WB01%23; Footprint Doc: 0402; LatestRevisionDate: 2022-12-16; Published: 2022-12-16; Value: 2.1pF; Supplier 1: Digi-Key; Supplier Part Number 1: 490-GJM1555C1H2R1WB01DCT-ND; Supplier 2: N.A.; Supplier Part Number 2: N.A.; Artikkelnr Noca: N.A.; Part number IPS: N.A.; Part number Norautron: N.A.; PartId: 100200533
footprint CAPC1005X04L
footprint C1608X06L-C1005X04M (Chip Capacitor, 2-Leads, Body 1.6x0.8mm, IPC High Density)
pins: 1, 2

## C0402-2.1p-50V-NP0-GJM1555C1H2R1WB01_1
designator Z?, comment 2.1pF
Capacitor, NP0, ±0.05pF, 50V; Part Number: C0402-2.1p-50V-NP0-GJM1555C1H2R1WB01; Manufacturer: Murata; Manufacturer Part Number: GJM1555C1H2R1WB01D; Part number NEMS: 100200533; Pad Count: 2; Note: N.A.; Component Status: Active; Component Class: Capacitors; Author: rubr; ComponentLink1URL: https://search.murata.co.jp/Ceramy/image/img/A01X/G101/ENG/GJM1555C1H2R1WB01-01.pdf; ComponentLink1Description: Datasheet; ComponentLink2URL: https://www.digikey.com/en/products/detail/murata-electronics/GJM1555C1H2R1WB01D/2592918; ComponentLink2Description: Supplier link; HelpURL: https://www.murata.com/en-us/products/productdetail?partno=GJM1555C1H2R1WB01%23; Footprint Doc: 0402; LatestRevisionDate: 2022-12-16; Published: 2022-12-16; Value: 2.1pF; Supplier 1: Digi-Key; Supplier Part Number 1: 490-GJM1555C1H2R1WB01DCT-ND; Supplier 2: N.A.; Supplier Part Number 2: N.A.; Artikkelnr Noca: N.A.; Part number IPS: N.A.; Part number Norautron: N.A.; PartId: 100200533
footprint CAPC1005X04L
footprint C1608X06L-C1005X04M (Chip Capacitor, 2-Leads, Body 1.6x0.8mm, IPC High Density)
pins: 1, 2

## C0402-2µ2-10V-X7R-GRM155Z71A225KE44D
designator C?, comment 2.2µF
Capacitor, Ceramic, X7R, ±10%, 10V; Part Number: C0402-2µ2-10V-X7R-GRM155Z71A225KE44D; Manufacturer: Murata; Manufacturer Part Number: GRM155Z71A225KE44D; Part number NEMS: 100200653; Component Status: Active; Pad Count: 2; Note: -55°C ~ 125°C; Artikkelnr Noca: N.A.; PartId: 100200653; Component Class: Capacitors; Author: ersa; ComponentLink1URL: https://search.murata.co.jp/Ceramy/image/img/A01X/G101/ENG/GRM155Z71A225KE44-01A.pdf; ComponentLink1Description: Datasheet; ComponentLink2URL: N.A.; ComponentLink2Description: Supplier link; HelpURL: N.A.; LatestRevisionDate: 2024-02-07; Published: 2024-02-07; Footprint Doc: 0402; Value: 2.2µF; Supplier 1: Digi-Key; Supplier Part Number 1: 490-GRM155Z71A225KE44DTR-ND; Supplier 2: N.A.; Supplier Part Number 2: N.A.; Part number IPS: N.A.; Part number Norautron: N.A.
footprint CAPC1005X04L_C2
pins: 1, 2

## C0402-2µ2-10V-X7R-GRM155Z71A225KE44D_1
designator C?, comment 2.2µF
Capacitor, Ceramic, X7R, ±10%, 10V; Part Number: C0402-2µ2-10V-X7R-GRM155Z71A225KE44D; Manufacturer: Murata; Manufacturer Part Number: GRM155Z71A225KE44D; Part number NEMS: 100200653; Component Status: Active; Pad Count: 2; Note: -55°C ~ 125°C; Artikkelnr Noca: N.A.; PartId: 100200653; Component Class: Capacitors; Author: ersa; ComponentLink1URL: https://search.murata.co.jp/Ceramy/image/img/A01X/G101/ENG/GRM155Z71A225KE44-01A.pdf; ComponentLink1Description: Datasheet; ComponentLink2URL: N.A.; ComponentLink2Description: Supplier link; HelpURL: N.A.; LatestRevisionDate: 2024-02-07; Published: 2024-02-07; Footprint Doc: 0402; Value: 2.2µF; Supplier 1: Digi-Key; Supplier Part Number 1: 490-GRM155Z71A225KE44DTR-ND; Supplier 2: N.A.; Supplier Part Number 2: N.A.; Part number IPS: N.A.; Part number Norautron: N.A.
footprint CAPC1005X04L_C2
pins: 1, 2

## C0402-2µ2-25V-X5R-GRM155R61E225KE11
designator C?, comment 2.2µF
Capacitor, Ceramic, 2.2µF 25V X5R 0402,±10%; Part Number: C0402-2µ2-25V-X5R-GRM155R61E225KE11; Manufacturer: Murata; Manufacturer Part Number: GRM155R61E225KE11D; Part number NEMS: 100200492; Pad Count: 2; Artikkelnr Noca: N.A.; Component Status: Active; Component Class: Capacitors; Author: prbu; ComponentLink1URL: https://www.murata.com/en-sg/products/productdetail?partno=GRM155R61E225KE11%23; ComponentLink1Description: Datasheet; ComponentLink2URL: https://www.mouser.com/ProductDetail/Murata-Electronics/GRM155R61E225KE11D?qs=eeBpzGFlv%252B8X58bIUndZvA%3D%3D; ComponentLink2Description: Supplier link; HelpURL: N.A.; Footprint Doc: 0402; LatestRevisionDate: 2021-12-09; Published: 2021-12-09; Value: 2.2µF; Note: 25V; Supplier 1: Mouser; Supplier Part Number 1: 81-GRM155R61E225KE1D; Supplier 2: Digi-Key; Supplier Part Number 2: 490-12703-1-ND; Part number IPS: N.A.; Part number Norautron: N.A.; PartId: 100200492
footprint CAPC1005X04L
pins: 1, 2

## C0402-2µ2-25V-X5R-GRM155R61E225KE11_1
designator C?, comment 2.2µF
Capacitor, Ceramic, 2.2µF 25V X5R 0402,±10%; Part Number: C0402-2µ2-25V-X5R-GRM155R61E225KE11; Manufacturer: Murata; Manufacturer Part Number: GRM155R61E225KE11D; Part number NEMS: 100200492; Pad Count: 2; Artikkelnr Noca: N.A.; Component Status: Active; Component Class: Capacitors; Author: prbu; ComponentLink1URL: https://www.murata.com/en-sg/products/productdetail?partno=GRM155R61E225KE11%23; ComponentLink1Description: Datasheet; ComponentLink2URL: https://www.mouser.com/ProductDetail/Murata-Electronics/GRM155R61E225KE11D?qs=eeBpzGFlv%252B8X58bIUndZvA%3D%3D; ComponentLink2Description: Supplier link; HelpURL: N.A.; Footprint Doc: 0402; LatestRevisionDate: 2021-12-09; Published: 2021-12-09; Value: 2.2µF; Note: 25V; Supplier 1: Mouser; Supplier Part Number 1: 81-GRM155R61E225KE1D; Supplier 2: Digi-Key; Supplier Part Number 2: 490-12703-1-ND; Part number IPS: N.A.; Part number Norautron: N.A.; PartId: 100200492
footprint CAPC1005X04L
pins: 1, 2

## C0402-4µ7
designator C?, comment 4.7µF
Capacitor, X5R, ±20%; Part Number: C0402-4µ7; Manufacturer: N.A.; Part number IPS: 00000001251, 00000007165; Part number NEMS: 100200193; Pad Count: 2; Component Status: Active; Note: 10V; Artikkelnr Noca: 20039482; Footprint Doc: 0402; Value: 4.7µF; Author: rsk; PartId: 100200193; Component Class: Capacitors; Manufacturer Part Number: N.A.; ComponentLink1URL: N.A.; ComponentLink1Description: Datasheet; ComponentLink2URL: N.A.; ComponentLink2Description: Supplier link; HelpURL: N.A.; LatestRevisionDate: 2017-11-09; Published: 2009-05-08; Supplier 1: Digi-Key; Supplier Part Number 1: 490-13252-1-ND; Supplier 2: N.A.; Supplier Part Number 2: N.A.; Part number Norautron: N.A.
footprint CAPC1005X04L
pins: 1, 2

## C0402-4µ7_1
designator C?, comment 4.7µF
Capacitor, X5R, ±20%; Part Number: C0402-4µ7; Manufacturer: N.A.; Part number IPS: 00000001251, 00000007165; Part number NEMS: 100200193; Pad Count: 2; Component Status: Active; Note: 10V; Artikkelnr Noca: 20039482; Footprint Doc: 0402; Value: 4.7µF; Author: rsk; PartId: 100200193; Component Class: Capacitors; Manufacturer Part Number: N.A.; ComponentLink1URL: N.A.; ComponentLink1Description: Datasheet; ComponentLink2URL: N.A.; ComponentLink2Description: Supplier link; HelpURL: N.A.; LatestRevisionDate: 2017-11-09; Published: 2009-05-08; Supplier 1: Digi-Key; Supplier Part Number 1: 490-13252-1-ND; Supplier 2: N.A.; Supplier Part Number 2: N.A.; Part number Norautron: N.A.
footprint CAPC1005X04L
pins: 1, 2

## C0402-6.0p-50V-NP0-GJM1555C1H6R0WB01
designator Z?, comment 6.0pF
Capacitor, NP0, ±0.05pF, 50V; Part Number: C0402-6.0p-50V-NP0-GJM1555C1H6R0WB01; Manufacturer: Murata; Manufacturer Part Number: GJM1555C1H6R0WB01D; Part number NEMS: 100200532; Pad Count: 2; Note: N.A.; Component Status: Active; Component Class: Capacitors; Author: rubr; ComponentLink1URL: https://search.murata.co.jp/Ceramy/image/img/A01X/G101/ENG/GJM1555C1H6R0WB01-01.pdf; ComponentLink1Description: Datasheet; ComponentLink2URL: https://www.digikey.com/en/products/detail/murata-electronics/GJM1555C1H6R0WB01D/2593066; ComponentLink2Description: Supplier link; HelpURL: https://www.murata.com/en-us/products/productdetail?partno=GJM1555C1H6R0WB01%23; Footprint Doc: 0402; LatestRevisionDate: 2022-12-16; Published: 2022-12-16; Value: 6.0pF; Supplier 1: Digi-Key; Supplier Part Number 1: 490-11230-1-ND; Supplier 2: N.A.; Supplier Part Number 2: N.A.; Artikkelnr Noca: N.A.; Part number IPS: N.A.; Part number Norautron: N.A.; PartId: 100200532
footprint CAPC1005X04L
footprint C1608X06L-C1005X04M (Chip Capacitor, 2-Leads, Body 1.6x0.8mm, IPC High Density)
pins: 1, 2

## C0402-6.0p-50V-NP0-GJM1555C1H6R0WB01_1
designator Z?, comment 6.0pF
Capacitor, NP0, ±0.05pF, 50V; Part Number: C0402-6.0p-50V-NP0-GJM1555C1H6R0WB01; Manufacturer: Murata; Manufacturer Part Number: GJM1555C1H6R0WB01D; Part number NEMS: 100200532; Pad Count: 2; Note: N.A.; Component Status: Active; Component Class: Capacitors; Author: rubr; ComponentLink1URL: https://search.murata.co.jp/Ceramy/image/img/A01X/G101/ENG/GJM1555C1H6R0WB01-01.pdf; ComponentLink1Description: Datasheet; ComponentLink2URL: https://www.digikey.com/en/products/detail/murata-electronics/GJM1555C1H6R0WB01D/2593066; ComponentLink2Description: Supplier link; HelpURL: https://www.murata.com/en-us/products/productdetail?partno=GJM1555C1H6R0WB01%23; Footprint Doc: 0402; LatestRevisionDate: 2022-12-16; Published: 2022-12-16; Value: 6.0pF; Supplier 1: Digi-Key; Supplier Part Number 1: 490-11230-1-ND; Supplier 2: N.A.; Supplier Part Number 2: N.A.; Artikkelnr Noca: N.A.; Part number IPS: N.A.; Part number Norautron: N.A.; PartId: 100200532
footprint CAPC1005X04L
footprint C1608X06L-C1005X04M (Chip Capacitor, 2-Leads, Body 1.6x0.8mm, IPC High Density)
pins: 1, 2

## C0402-10µF-6.3V-X5R-M
designator C?, comment 10µF
Multilayer Ceramic Capacitors MLCC - SMD/SMT 0402 6.3VDC 4.7uF 20% X6S; Part Number: C0402-10µF-6.3V-X5R-M; Manufacturer: Taiyo Yuden; Manufacturer Part Number: JMK105CBJ106MV-F; Part number NEMS: 100200467; Note: 6.3V; Artikkelnr Noca: N.A.; Pad Count: 2; Component Status: Active; ComponentLink1URL: https://www.yuden.co.jp/productdata/catalog/mlcc06_e.pdf; ComponentLink1Description: Datasheet; ComponentLink2URL: https://www.digikey.com/en/products/detail/taiyo-yuden/JMK105CBJ106MV-F/4970719?s=N4IgjCBcpgLFoDGUBmBDANgZwKYBoQB7KAbRACYBWcsSykAXQIAcAXKEAZVYCcBLAHYBzEAF8CYAGwIQySOmz4ipEAGYAnLQAcjFu0hdegkeIoAGWOplyFuAsUhkwZgAQBWgGK6QbDgFUBPlYAeRQAWRw0LABXHhwxAgBaCGhZVEw; ComponentLink2Description: Supplier link; HelpURL: https://ds.yuden.co.jp/TYCOMPAS/ut/detail?pn=JMK105BC6475MV-F&u=M; Footprint Doc: 0402; LatestRevisionDate: 2021-06-21; Published: 2021-04-06; Value: 10µF; Supplier 1: Digi-Key; Supplier Part Number 1: 587-5868-1-ND; Supplier 2: N.A.; Supplier Part Number 2: N.A.; Part number IPS: N.A.; Component Class: Capacitors; PartId: 100200467; Author: getr; Part number Norautron: N.A.
footprint CAPC1005X04L
pins: 1, 2

## C0402-10µF-6.3V-X5R-M_1
designator C?, comment 10µF
Multilayer Ceramic Capacitors MLCC - SMD/SMT 0402 6.3VDC 4.7uF 20% X6S; Part Number: C0402-10µF-6.3V-X5R-M; Manufacturer: Taiyo Yuden; Manufacturer Part Number: JMK105CBJ106MV-F; Part number NEMS: 100200467; Note: 6.3V; Artikkelnr Noca: N.A.; Pad Count: 2; Component Status: Active; ComponentLink1URL: https://www.yuden.co.jp/productdata/catalog/mlcc06_e.pdf; ComponentLink1Description: Datasheet; ComponentLink2URL: https://www.digikey.com/en/products/detail/taiyo-yuden/JMK105CBJ106MV-F/4970719?s=N4IgjCBcpgLFoDGUBmBDANgZwKYBoQB7KAbRACYBWcsSykAXQIAcAXKEAZVYCcBLAHYBzEAF8CYAGwIQySOmz4ipEAGYAnLQAcjFu0hdegkeIoAGWOplyFuAsUhkwZgAQBWgGK6QbDgFUBPlYAeRQAWRw0LABXHhwxAgBaCGhZVEw; ComponentLink2Description: Supplier link; HelpURL: https://ds.yuden.co.jp/TYCOMPAS/ut/detail?pn=JMK105BC6475MV-F&u=M; Footprint Doc: 0402; LatestRevisionDate: 2021-06-21; Published: 2021-04-06; Value: 10µF; Supplier 1: Digi-Key; Supplier Part Number 1: 587-5868-1-ND; Supplier 2: N.A.; Supplier Part Number 2: N.A.; Part number IPS: N.A.; Component Class: Capacitors; PartId: 100200467; Author: getr; Part number Norautron: N.A.
footprint CAPC1005X04L
pins: 1, 2

## C0402-100p-50V-GRM1555C1H101GA01D
designator C?, comment 100pF
Capacitor, NP0, ±2%, 50V; Part Number: C0402-100p-50V-GRM1555C1H101GA01D; Manufacturer: Murata; Manufacturer Part Number: GRM1555C1H101GA01D; Component Status: Active; Pad Count: 2; Artikkelnr Noca: N.A.; Component Class: Capacitors; Author: getr; ComponentLink1URL: https://search.murata.co.jp/Ceramy/image/img/A01X/G101/ENG/GRM1555C1H101GA01-01.pdf; ComponentLink1Description: Datasheet; ComponentLink2URL: https://www.digikey.no/en/products/detail/murata-electronics/GRM1555C1H101GA01D/3693920; ComponentLink2Description: Supplier link; HelpURL: https://www.murata.com/en-eu/products/productdetail?partno=GRM1555C1H101GA01%23; Footprint Doc: 0402; LatestRevisionDate: 2024-09-23; Published: 2024-09-23; Value: 100pF; Note: 50V; Supplier 1: Digi-Key; Supplier Part Number 1: 490-6188-1-ND; Supplier 2: N.A.; Supplier Part Number 2: N.A.; Part number IPS: N.A.; Part number Norautron: N.A.
footprint CAPC1005X04L
pins: 1, 2

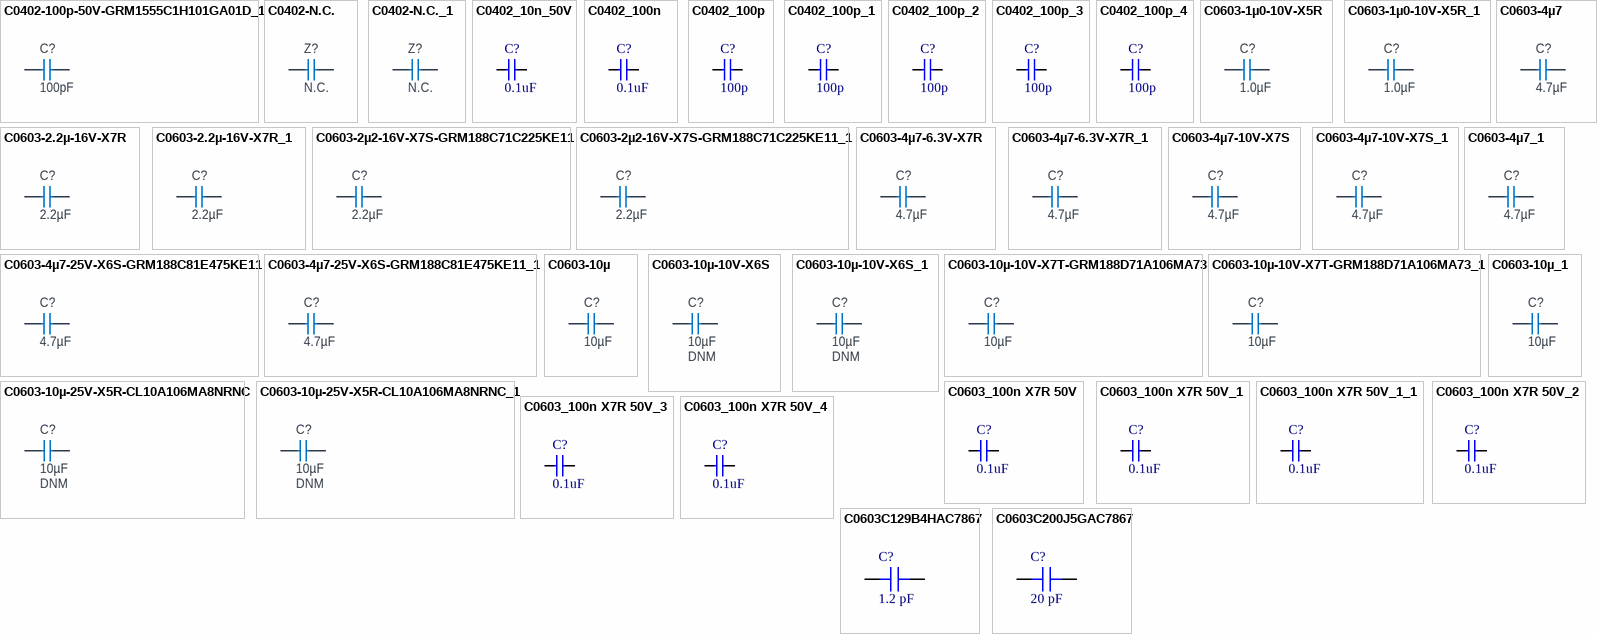
[diagram p9: symbols C0402-100p-50V-GRM1555C1H101GA01D_1 to C0603C200J5GAC7867]

## C0402-100p-50V-GRM1555C1H101GA01D_1
designator C?, comment 100pF
Capacitor, NP0, ±2%, 50V; Part Number: C0402-100p-50V-GRM1555C1H101GA01D; Manufacturer: Murata; Manufacturer Part Number: GRM1555C1H101GA01D; Component Status: Active; Pad Count: 2; Artikkelnr Noca: N.A.; Component Class: Capacitors; Author: getr; ComponentLink1URL: https://search.murata.co.jp/Ceramy/image/img/A01X/G101/ENG/GRM1555C1H101GA01-01.pdf; ComponentLink1Description: Datasheet; ComponentLink2URL: https://www.digikey.no/en/products/detail/murata-electronics/GRM1555C1H101GA01D/3693920; ComponentLink2Description: Supplier link; HelpURL: https://www.murata.com/en-eu/products/productdetail?partno=GRM1555C1H101GA01%23; Footprint Doc: 0402; LatestRevisionDate: 2024-09-23; Published: 2024-09-23; Value: 100pF; Note: 50V; Supplier 1: Digi-Key; Supplier Part Number 1: 490-6188-1-ND; Supplier 2: N.A.; Supplier Part Number 2: N.A.; Part number IPS: N.A.; Part number Norautron: N.A.
footprint CAPC1005X04L
pins: 1, 2

## C0402-N.C.
designator Z?, comment N.C.
Not mounted; Part Number: C0402-N.C.; Manufacturer: N.A.; Part number NEMS: 100200105; Pad Count: 2; Note: Chip Cap; Assembly: Not mounted; Component Status: Active; Component Class: Capacitors; Author: rsk; Manufacturer Part Number: N.A.; ComponentLink1URL: N.A.; ComponentLink1Description: Datasheet; ComponentLink2URL: N.A.; ComponentLink2Description: Supplier link; HelpURL: N.A.; Footprint Doc: 0402; LatestRevisionDate: 2009-05-08; Published: 2009-05-08; Value: N.C.; Supplier 1: N.A.; Supplier Part Number 1: N.A.; Supplier 2: N.A.; Supplier Part Number 2: N.A.; Artikkelnr Noca: N.A.; Part number IPS: N.A.; Part number Norautron: N.A.; PartId: 100200105
footprint CAPC1005X04L_NC
footprint C1608X06L-C1005X04M (Chip Capacitor, 2-Leads, Body 1.6x0.8mm, IPC High Density)
pins: 1, 2

## C0402-N.C._1
designator Z?, comment N.C.
Not mounted; Part Number: C0402-N.C.; Manufacturer: N.A.; Part number NEMS: 100200105; Pad Count: 2; Note: Chip Cap; Assembly: Not mounted; Component Status: Active; Component Class: Capacitors; Author: rsk; Manufacturer Part Number: N.A.; ComponentLink1URL: N.A.; ComponentLink1Description: Datasheet; ComponentLink2URL: N.A.; ComponentLink2Description: Supplier link; HelpURL: N.A.; Footprint Doc: 0402; LatestRevisionDate: 2009-05-08; Published: 2009-05-08; Value: N.C.; Supplier 1: N.A.; Supplier Part Number 1: N.A.; Supplier 2: N.A.; Supplier Part Number 2: N.A.; Artikkelnr Noca: N.A.; Part number IPS: N.A.; Part number Norautron: N.A.; PartId: 100200105
footprint CAPC1005X04L_NC
footprint C1608X06L-C1005X04M (Chip Capacitor, 2-Leads, Body 1.6x0.8mm, IPC High Density)
pins: 1, 2